# Altium schematic symbol library 1x8_Header.SchLib: 1 symbol
Pins are listed as number, name and electrical type; pins without a type are passive.

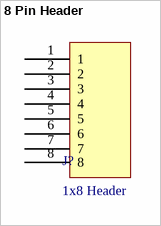
[diagram p0: symbol 8 Pin Header]

## 8 Pin Header
designator J?, comment 1x8 Header
Supplier 1: Digikey; Supplier Part Number 1: SAM1206-08-ND
footprint 1x8Header
pins: 1, 2, 3, 4, 5, 6, 7, 8